# Altium integrated library HyTechDevices.Library.IntLib: 220 symbols (part 3 of 3)
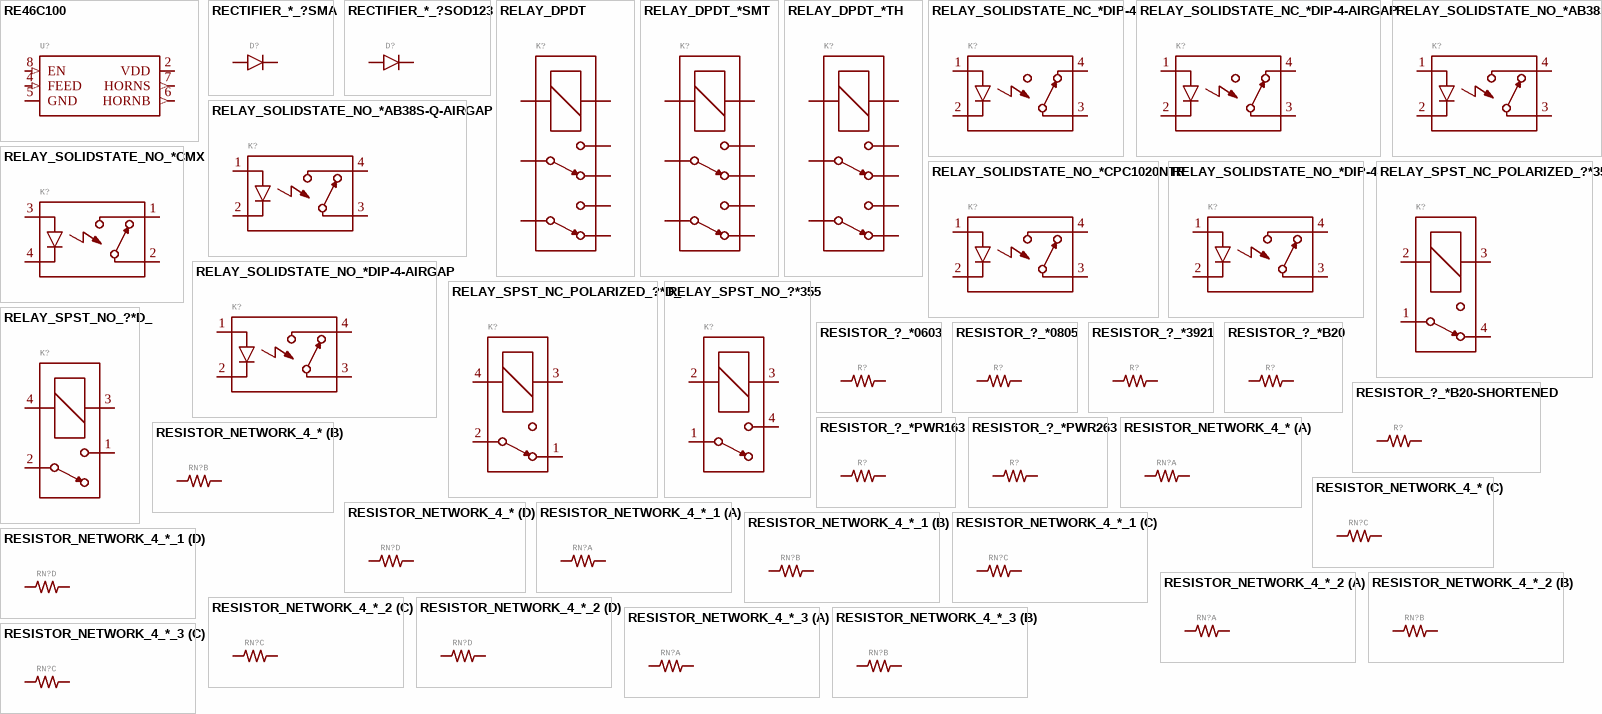
[diagram p9: symbols RE46C100 to RESISTOR_NETWORK_4_*_3]

## RESISTOR_NETWORK_4_*_2
designator RN?, comment Resistor Network, 4 Elements  YC/TC Series  CAT/CAY 16 Series  (value not drawn)
MANUFACTURER: Bourns Inc.; MPN: CAT16-100J4LF; MPN: CAT16-1000F4LF; MANUFACTURER: Yageo; MPN: TC164-FR-0710KL; MPN: YC164-JR-07160RL; MPN: YC164-FR-071KL; MPN: CAT16-2702F4LF; GateName_1: A; GateName_2: B; GateName_3: C; GateName_4: D; DeviceSetName: RESISTOR_NETWORK_4_*; DKPN: CAT16-100J4LFCT-ND; MOPN: 652-CAT16-100J4LF; POWER: 1/16W; RESISTANCE: 10; TOLERANCE: 5%; VOLTAGE: 50V; DKPN: CAT16-1000F4LFCT-ND; MOPN: 652-CAT16-1000F4LF; RESISTANCE: 100; TOLERANCE: 1%; DKPN: YAG3410CT-ND; MOPN: 603-TC164-FR-0710KL; RESISTANCE: 10K; DKPN: YC164J-160CT-ND; MOPN: 603-YC164-JR-07160RL; RESISTANCE: 160; DKPN: 13-YC164-FR-071KLCT-ND; MOPN: 603-YC164-FR-071KL; RESISTANCE: 1k; DKPN: CAT16-2702F4LFCT-ND; MOPN: 652-CAT16-2702F4LF; RESISTANCE: 27K; SymbolName_1: RESISTOR; SymbolName_2: RESISTOR; SymbolName_3: RESISTOR; SymbolName_4: RESISTOR; LibraryName: HyTechDevices; Package: 1206-RES-ARRAY
footprint 1206-RES-ARRAY
part A pins: 1, 8 2
part B pins: 2 1, 7 2
part C pins: 3 1, 6 2
part D pins: 4 1, 5 2

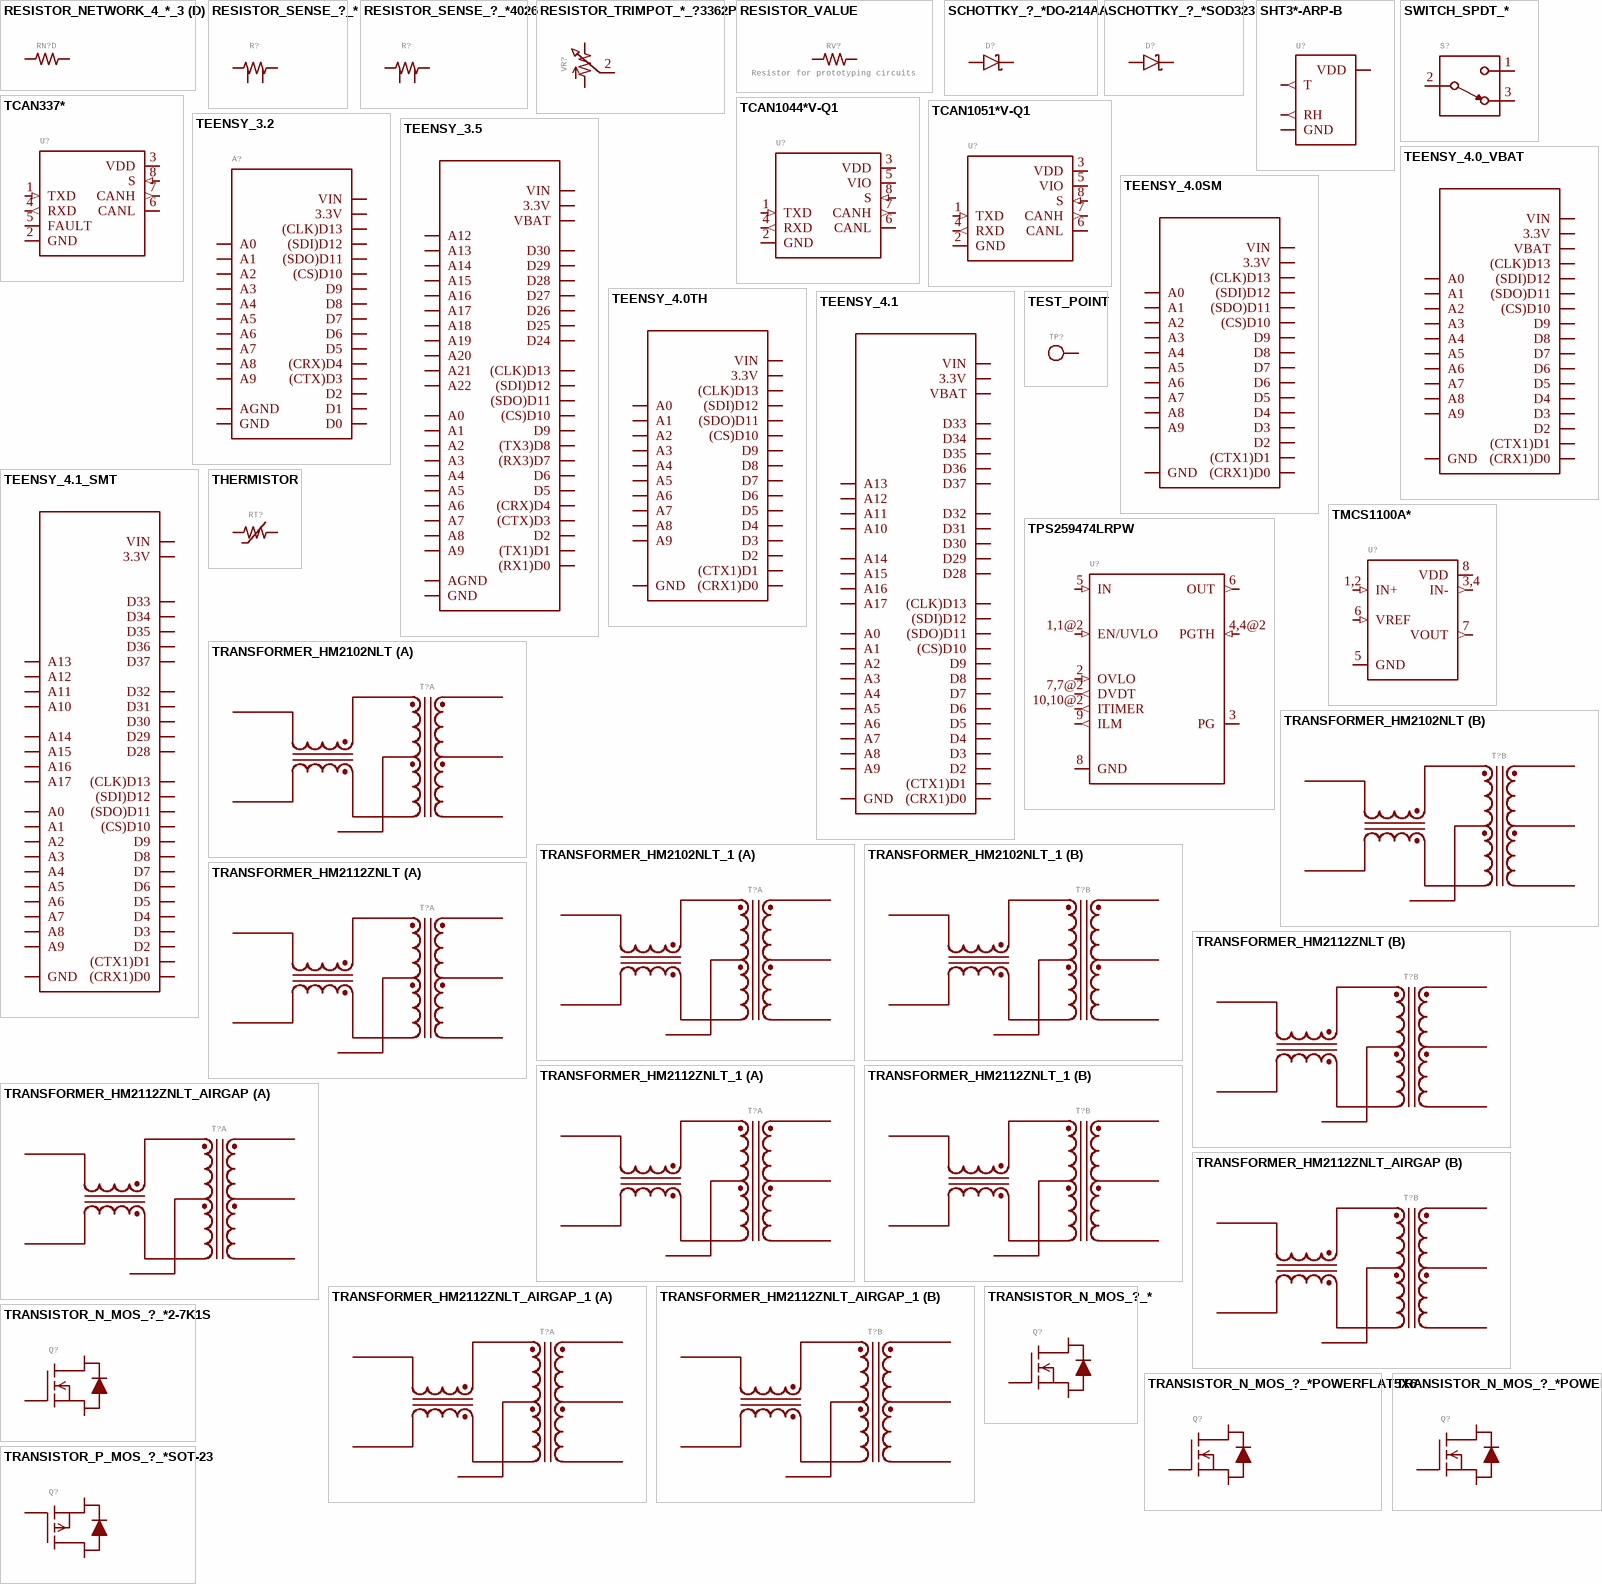
[diagram p5: symbols RESISTOR_NETWORK_4_*_3 to TRANSISTOR_P_MOS_?_*SOT-23]

## RESISTOR_NETWORK_4_*_3
designator RN?, comment Resistor Network, 4 Elements  YC/TC Series  CAT/CAY 16 Series  (value not drawn)
MANUFACTURER: Bourns Inc.; MPN: CAT16-100J4LF; MPN: CAT16-1000F4LF; MANUFACTURER: Yageo; MPN: TC164-FR-0710KL; MPN: YC164-JR-07160RL; MPN: YC164-FR-071KL; MPN: CAT16-2702F4LF; GateName_1: A; GateName_2: B; GateName_3: C; GateName_4: D; DeviceSetName: RESISTOR_NETWORK_4_*; DKPN: CAT16-100J4LFCT-ND; MOPN: 652-CAT16-100J4LF; POWER: 1/16W; RESISTANCE: 10; TOLERANCE: 5%; VOLTAGE: 50V; DKPN: CAT16-1000F4LFCT-ND; MOPN: 652-CAT16-1000F4LF; RESISTANCE: 100; TOLERANCE: 1%; DKPN: YAG3410CT-ND; MOPN: 603-TC164-FR-0710KL; RESISTANCE: 10K; DKPN: YC164J-160CT-ND; MOPN: 603-YC164-JR-07160RL; RESISTANCE: 160; DKPN: 13-YC164-FR-071KLCT-ND; MOPN: 603-YC164-FR-071KL; RESISTANCE: 1k; DKPN: CAT16-2702F4LFCT-ND; MOPN: 652-CAT16-2702F4LF; RESISTANCE: 27K; SymbolName_1: RESISTOR; SymbolName_2: RESISTOR; SymbolName_3: RESISTOR; SymbolName_4: RESISTOR; LibraryName: HyTechDevices; Package: 1206-RES-ARRAY
footprint 1206-RES-ARRAY
part A pins: 1, 8 2
part B pins: 2 1, 7 2
part C pins: 3 1, 6 2
part D pins: 4 1, 5 2

## RESISTOR_SENSE_?_*
designator R?, comment Sense Resistor  Vishay WSL2726 Vishay 4026  (value not drawn)
MANUFACTURER: Vishay Dale; MPN: WSL27261L300FEA; GateName_1: G$1; SymbolName_1: RESISTOR_SENSE; DeviceSetName: RESISTOR_SENSE_?_*; DKPN: 541-WSL27261L300FEACT-ND; MOPN: 71-WSL27261L300FEA; POWER: 3W; RESISTANCE: 1.3mΩ; TOLERANCE: 1%; VOLTAGE: 0.0624V; LibraryName: HyTechDevices; Package: WSL2726
footprint WSL2726
pins: 1, 2, 3, 4

## RESISTOR_SENSE_?_*4026
designator R?, comment Sense Resistor  Vishay WSL2726 Vishay 4026  (value not drawn)
MANUFACTURER: Vishay Dale; MPN: WSL40262L000FEB; GateName_1: G$1; SymbolName_1: RESISTOR_SENSE; DeviceName: 4026; DeviceSetName: RESISTOR_SENSE_?_*; DKPN: WSLR-.002CT-ND; MOPN: 71-WSL40262L000FEB; POWER: 3W; RESISTANCE: 2.0mΩ; TOLERANCE: 1%; VOLTAGE: 0.077V; LibraryName: HyTechDevices; Package: 4026
footprint 4026
pins: 1, 2, 3, 4

## RESISTOR_TRIMPOT_*_?3362P
designator VR?, comment Variable Resistor  Bourns 3362P Datasheet  (value not drawn)
MANUFACTURER: Bourns Inc.; MPN: 3362P-1-103LF; GateName_1: G$1; SymbolName_1: RESISTOR_TRIMPOT; DeviceSetName: RESISTOR_TRIMPOT_*_?; DKPN: 3362P-103LF-ND; MOPN: 652-3362P-1-103LF; POWER: 0.5W; RESISTANCE: 10k; TOLERANCE: 10%; VOLTAGE: 70.711V; DeviceName: 3362P; LibraryName: HyTechDevices; Package: 3362P
footprint 3362P
pins: 1, 2 3, 3 2

## RESISTOR_VALUE
designator RV?, comment Resistor for prototyping circuits
GateName_1: G$1; SymbolName_1: RESISTOR_VALUE; LibraryName: HyTechDevices; DeviceSetName: RESISTOR_VALUE; Package: 0603-RES
footprint 0603-RES
pins: 1, 2

## SCHOTTKY_?_*DO-214AA
designator D?, comment CUS08F30 Shottky Diode  Datasheet  (value not drawn)
MANUFACTURER: Comchip Technology; MPN: CDBB3150-HF; GateName_1: G$1; SymbolName_1: DIODE_SCHOTTKY; DeviceName: DO-214AA; DeviceSetName: SCHOTTKY_?_*; CURRENT: 3A; DKPN: 641-1720-1-ND; MOPN: 750-CDBB3150-HF; VOLTAGE: 150V; LibraryName: HyTechDevices; Package: DO-214AA
footprint DO-214AA
pins: 1 A, 2 C

## SCHOTTKY_?_*SOD323
designator D?, comment CUS08F30 Shottky Diode  Datasheet  (value not drawn)
MANUFACTURER: Toshiba Semiconductor and Storage; MANUFACTURER: Panjit International Inc.; MPN: MBR1060HEWS_R1_00001; GateName_1: G$1; SymbolName_1: DIODE_SCHOTTKY; DeviceName: SOD323; DeviceSetName: SCHOTTKY_?_*; CURRENT: 0.8A; DKPN: CUS08F30H3FTR-ND; MOPN: 757-CUS08F30H3F; VOLTAGE: 30V; CURRENT: 1A; DKPN: 3757-MBR1060HEWS_R1_00001TR-ND; MOPN: 241-MBR1060HEWSR1000; VOLTAGE: 60V; LibraryName: HyTechDevices; Package: SOD-323; MPN: CUS08F30
footprint SOD-323
pins: A, C

## SHT3*-ARP-B
designator U?, comment Humidity and Temperature Sensor  SHT30: Low Grade  SHT31: High Grade  Datasheet  (value not drawn)
MANUFACTURER: Sensirion AG; MPN: SHT30-ARP-B; MPN: SHT31-ARP-B; GateName_1: G$1; SymbolName_1: SENSOR_HUMIDITY_TEMPERATURE; DeviceSetName: SHT3*-ARP-B; DKPN: 1649-1010-1-ND; MOPN: 403-SHT30-ARP-B; DKPN: 1649-1012-1-ND; MOPN: 403-SHT31-ARP-B; LibraryName: HyTechDevices; Package: DFN-8
footprint DFN-8
pins: 1 RH (out), 2,3,7,8,PAD GND (power), 4 T (out), 5 VDD (power)

## SWITCH_SPDT_*
designator S?, comment Single pole, double throw switch  Datasheet  (value not drawn)
MANUFACTURER: NKK Switches; MPN: CS12ANW03; GateName_1: G$1; SymbolName_1: SWITCH_SPDT; DeviceSetName: SWITCH_SPDT_*; DKPN: 360-2131-ND; MOPN: 633-CS12ANW03; LibraryName: HyTechDevices; Package: CS12ANW03
footprint CS12ANW03
pins: 1 (io), 2 COM (io), 3 2 (io)

## TCAN337*
designator U?, comment TCAN337 Can Tranciever  Datasheet  (value not drawn)
MANUFACTURER: Texas Instruments; MPN: TCAN337GDCNR; GateName_1: G$1; SymbolName_1: CAN_TRANSCIEVER_TCAN337; DeviceSetName: TCAN337*; DKPN: 296-48971-1-ND; MOPN: 595-TCAN337GDCNR; LibraryName: HyTechDevices; Package: SOT-23-8
footprint SOT-23-8
pins: 1 TXD (in), 2 GND (power), 3 VDD (power), 4 RXD (out), 5 FAULT (oc), 6 CANL (io), 7 CANH (out), 8 S (in)

## TCAN1044*V-Q1
designator U?, comment TCAN1044*V Can Tranciever  Datasheet  (value not drawn)
MANUFACTURER: Texas Instruments; MPN: TCAN1044AEVDRQ1; GateName_1: G$1; SymbolName_1: CAN_TRANSCIEVER_TCAN1051*V; DeviceSetName: TCAN1044*V-Q1; DKPN: 296-TCAN1044AEVDRQ1TR-ND; MOPN: 595-TCAN1044AEVDRQ1; LibraryName: HyTechDevices; Package: SOIC-08(NARROW,0.15")
footprint SOIC-08(NARROW,0.15")
pins: 1 TXD (in), 2 GND (power), 3 VDD (power), 4 RXD (out), 5 VIO (power), 6 CANL (io), 7 CANH (out), 8 S (in)

## TCAN1051*V-Q1
designator U?, comment TCAN1051*V Can Tranciever  Datasheet  (value not drawn)
MANUFACTURER: Texas Instruments; MPN: TCAN1051HGVDRQ1; GateName_1: G$1; SymbolName_1: CAN_TRANSCIEVER_TCAN1051*V; DeviceSetName: TCAN1051*V-Q1; DKPN: 296-49935-1-ND; MOPN: 595-TCAN1051HGVDQ1; LibraryName: HyTechDevices; Package: SOIC-08(NARROW,0.15")
footprint SOIC-08(NARROW,0.15")
pins: 1 TXD (in), 2 GND (power), 3 VDD (power), 4 RXD (out), 5 VIO (power), 6 CANL (io), 7 CANH (out), 8 S (in)

## TEENSY_3.2
designator A?, comment Teensy 3.2  Datasheet Requires ordering of:  2: 14 pin, 0.1" pitch female headers  (value not drawn)
GateName_1: G$1; SymbolName_1: TEENSY_3.2; TEENSY: 3.2; LibraryName: HyTechDevices; DeviceSetName: TEENSY_3.2; Package: TEENSY_SHORT
footprint TEENSY_SHORT
pins: 3.3V (power), AGND/GND AGND (power), D0 (io), D1 (io), D2 (io), D3 (CTX)D3 (io), D4 (CRX)D4 (io), D5 (io), D6 (io), D7 (io), D8 (io), D9 (io), D10 (CS)D10 (io), D11 (SDO)D11 (io), D12 (SDI)D12 (io), D13 (CLK)D13 (io), D14 A0 (io), D15 A1 (io), D16 A2 (io), D17 A3 (io), D18 A4 (io), D19 A5 (io), D20 A6 (io), D21 A7 (io), D22 A8 (io), D23 A9 (io), GND (power), VIN (power)

## TEENSY_3.5
designator A?, comment Teensy 3.5  Datasheet Requires ordering of:  2: 24 pin, 0.1" pitch female headers  1:  2 pin, 0.1" pitch female headers  (value not drawn)
GateName_1: G$1; SymbolName_1: TEENSY_3.5_EXT; DeviceSetName: TEENSY_3.5; TEENSY: 3.5; LibraryName: HyTechDevices; Package: TEENSY_LONG_EXT
footprint TEENSY_LONG_EXT
pins: 3V3,3V3@2,3V3@3 3.3V (power), AGND/GND AGND (power), D0 (RX1)D0 (io), D1 (TX1)D1 (io), D2 (io), D3 (CTX)D3 (io), D4 (CRX)D4 (io), D5 (io), D6 (io), D7 (RX3)D7 (io), D8 (TX3)D8 (io), D9 (io), D10 (CS)D10 (io), D11 (SDO)D11 (io), D12 (SDI)D12 (io), D13 (CLK)D13 (io), D14 A0 (io), D15 A1 (io), D16 A2 (io), D17 A3 (io), D18 A4 (io), D19 A5 (io), D20 A6 (io), D21 A7 (io), D22 A8 (io), D23 A9 (io), D24 (io), D25 (io), D26 (io), D27 (io), D28 (io), D29 (io), D30 (io), D31 A12 (io), D32 A13 (io), D33 A14 (io), D34 A15 (io), D35 A16 (io), D36 A17 (io), D37 A18 (io), D38 A19 (io), D39 A20 (io), D40 A21 (io), D41 A22 (io), GND,GND@2 GND (power), VBAT (power), VIN (power)

## TEENSY_4.0_VBAT
designator A?, comment Teensy 4.0 with VBAT Pin  Datasheet Requires ordering of:  1: 14 pin, 0.1" pitch female headers  1: 13 pin, 0.1" pitch female headers  1:   2 pin, 0.1" pitch female headers  (value not drawn)
GateName_1: G$1; SymbolName_1: TEENSY_4.0_VBAT; TEENSY: 4.0; LibraryName: HyTechDevices; DeviceSetName: TEENSY_4.0_VBAT; Package: TEENSY_SHORT_VBAT
footprint TEENSY_SHORT_VBAT
pins: 3.3V (power), AGND/GND,GND GND (power), D0 (CRX1)D0 (io), D1 (CTX1)D1 (io), D2 (io), D3 (io), D4 (io), D5 (io), D6 (io), D7 (io), D8 (io), D9 (io), D10 (CS)D10 (io), D11 (SDO)D11 (io), D12 (SDI)D12 (io), D13 (CLK)D13 (io), D14 A0 (io), D15 A1 (io), D16 A2 (io), D17 A3 (io), D18 A4 (io), D19 A5 (io), D20 A6 (io), D21 A7 (io), D22 A8 (io), D23 A9 (io), VBAT (power), VIN (power)

## TEENSY_4.0SM
designator A?, comment Teensy 4.0  Datasheet Requires ordering of:  2: 14 pin, 0.1" pitch female headers. Recommend Samtec SSM-114-L-SV for surface mount variant.  (value not drawn)
GateName_1: G$1; SymbolName_1: TEENSY_4.0; DeviceName: SM; TEENSY: 4.0; LibraryName: HyTechDevices; DeviceSetName: TEENSY_4.0; Package: TEENSY_SHORT_SSM
footprint TEENSY_SHORT_SSM
pins: 3.3V (power), AGND/GND,GND GND (power), D0 (CRX1)D0 (io), D1 (CTX1)D1 (io), D2 (io), D3 (io), D4 (io), D5 (io), D6 (io), D7 (io), D8 (io), D9 (io), D10 (CS)D10 (io), D11 (SDO)D11 (io), D12 (SDI)D12 (io), D13 (CLK)D13 (io), D14 A0 (io), D15 A1 (io), D16 A2 (io), D17 A3 (io), D18 A4 (io), D19 A5 (io), D20 A6 (io), D21 A7 (io), D22 A8 (io), D23 A9 (io), VIN (power)

## TEENSY_4.0TH
designator A?, comment Teensy 4.0  Datasheet Requires ordering of:  2: 14 pin, 0.1" pitch female headers. Recommend Samtec SSM-114-L-SV for surface mount variant.  (value not drawn)
GateName_1: G$1; SymbolName_1: TEENSY_4.0; DeviceName: TH; TEENSY: 4.0; LibraryName: HyTechDevices; DeviceSetName: TEENSY_4.0; Package: TEENSY_SHORT
footprint TEENSY_SHORT
pins: 3.3V (power), AGND/GND,GND GND (power), D0 (CRX1)D0 (io), D1 (CTX1)D1 (io), D2 (io), D3 (io), D4 (io), D5 (io), D6 (io), D7 (io), D8 (io), D9 (io), D10 (CS)D10 (io), D11 (SDO)D11 (io), D12 (SDI)D12 (io), D13 (CLK)D13 (io), D14 A0 (io), D15 A1 (io), D16 A2 (io), D17 A3 (io), D18 A4 (io), D19 A5 (io), D20 A6 (io), D21 A7 (io), D22 A8 (io), D23 A9 (io), VIN (power)

## TEENSY_4.1
designator A?, comment Teensy 4.1 with VBAT  Datasheet Requires ordering of:  2: 24 pin, 0.1" pitch female headers  1:  2 pin, 0.1" pitch female headers  (value not drawn)
GateName_1: G$1; SymbolName_1: TEENSY_4.1_EXT; DeviceSetName: TEENSY_4.1; TEENSY: 4.1; LibraryName: HyTechDevices; Package: TEENSY_LONG_EXT
footprint TEENSY_LONG_EXT
pins: 3V3,3V3@2,3V3@3 3.3V (power), AGND/GND,GND,GND@2 GND (io), D0 (CRX1)D0 (io), D1 (CTX1)D1 (io), D2 (io), D3 (io), D4 (io), D5 (io), D6 (io), D7 (io), D8 (io), D9 (io), D10 (CS)D10 (io), D11 (SDO)D11 (io), D12 (SDI)D12 (io), D13 (CLK)D13 (io), D14 A0 (io), D15 A1 (io), D16 A2 (io), D17 A3 (io), D18 A4 (io), D19 A5 (io), D20 A6 (io), D21 A7 (io), D22 A8 (io), D23 A9 (io), D24 A10 (io), D25 A11 (io), D26 A12 (io), D27 A13 (io), D28 (io), D29 (io), D30 (io), D31 (io), D32 (io), D33 (io), D34 (io), D35 (io), D36 (io), D37 (io), D38 A14 (io), D39 A15 (io), D40 A16 (io), D41 A17 (io), VBAT (power), VIN (power)

## TEENSY_4.1_SMT
designator A?, comment Teensy 4.1 without VBAT  Datasheet Requires ordering of:  2: 24 pin, 0.1" pitch SMT female headers  (value not drawn)
GateName_1: G$1; SymbolName_1: TEENSY_4.1_EXT_NOBATT; DeviceSetName: TEENSY_4.1_SMT; TEENSY: 4.1; LibraryName: HyTechDevices; Package: TEENSY_LONG_SSM
footprint TEENSY_LONG_SSM
pins: 3.3V,3.3V@1 3.3V (power), AGND/GND,GND,GND@1 GND (io), D0 (CRX1)D0 (io), D1 (CTX1)D1 (io), D2 (io), D3 (io), D4 (io), D5 (io), D6 (io), D7 (io), D8 (io), D9 (io), D10 (CS)D10 (io), D11 (SDO)D11 (io), D12 (SDI)D12 (io), D13 (CLK)D13 (io), D14 A0 (io), D15 A1 (io), D16 A2 (io), D17 A3 (io), D18 A4 (io), D19 A5 (io), D20 A6 (io), D21 A7 (io), D22 A8 (io), D23 A9 (io), D24 A10 (io), D25 A11 (io), D26 A12 (io), D27 A13 (io), D28 (io), D29 (io), D30 (io), D31 (io), D32 (io), D33 (io), D34 (io), D35 (io), D36 (io), D37 (io), D38 A14 (io), D39 A15 (io), D40 A16 (io), D41 A17 (io), VIN (power)

## TEST_POINT
designator TP?, comment Test Point for Probing  (value not drawn)
MANUFACTURER: Keystone Electronics; MPN: 5015; GateName_1: G$1; SymbolName_1: TEST_POINT; DKPN: 36-5015CT-ND; MOPN: 534-5015; LibraryName: HyTechDevices; DeviceSetName: TEST_POINT; Package: 5015
footprint 5015
pins: 1

## THERMISTOR
designator RT?, comment Thermistor  Datasheet Murata  (value not drawn)
MANUFACTURER: Murata Electronics; MPN: NCU18XH103D60RB; GateName_1: G$1; SymbolName_1: RESISTOR_THERMISTOR; DKPN: 490-18147-1-ND; MOPN: 81-NCU18XH103D60RB; RESISTANCE: 10k; LibraryName: HyTechDevices; DeviceSetName: THERMISTOR; Package: 0603-RES
footprint 0603-RES
pins: 1, 2

## TMCS1100A*
designator U?, comment TMCS1100A* Hall-Effect Current Sensor  Datasheet  (value not drawn)
MANUFACTURER: Texas Instruments; MPN: TMCS1100A4; GateName_1: G$1; DKPN: 296-TMCS1100A4QDR; MOPN: 595-TMCS1100A4QDR; MOPN: 595-TMCS1100A4QDT; SymbolName_1: TMCS1100A*; LibraryName: HyTechDevices; DeviceSetName: TMCS1100A*; Package: SOIC-08(NARROW,0.15")
footprint SOIC-08(NARROW,0.15")
pins: 1,2 IN+ (in), 3,4 IN- (out), 5 GND (power), 6 VREF (in), 7 VOUT (out), 8 VDD (power)

## TPS259474LRPW
designator U?, comment TPS259474x E-Fuse  Datasheet Note: See page 32 for application schematic.  (value not drawn)
GateName_1: G$1; SymbolName_1: TPS259474*; DeviceSetName: TPS259474LRPW; LibraryName: HyTechDevices; Package: VQFN-HR-10; MPN: TPS259474LRPW
footprint VQFN-HR-10
pins: 1,1@2 EN/UVLO (in), 2 OVLO (in), 3 PG (oc), 4,4@2 PGTH (in), 5 IN (in), 6 OUT (out), 7,7@2 DVDT (out), 8 GND (power), 9 ILM (out), 10,10@2 ITIMER (out)

## TRANSFORMER_HM2102NLT
designator T?, comment 2 Channel SMT Transformer Specs for both HM2102NL and HM2112ZNL Transformers Turns ratio: 1CT: 1CT Isolation Voltage: 4300 VDC Inductance: 150 uH Leakage Inductance: 0.50 uH max    HM2102NLT: Datasheet   HM2112ZNLT: Datasheet  (value not drawn)
MANUFACTURER: Pulse Electronics Network; GateName_1: A; GateName_2: B; DeviceName: _HM2102NLT; DKPN: 1840-1034-1-ND; MOPN: 673-HM2102NLT; SymbolName_1: TRANSFORMER; SymbolName_2: TRANSFORMER; LibraryName: HyTechDevices; DeviceSetName: TRANSFORMER; Package: HM2102NLT; MPN: HM2102NLT
footprint HM2102NLT
part A pins: 1 MX+, 2 MCT, 3 MX-, 10 TD-, 11 TCT, 12 TD+
part B pins: 4 MX+, 5 MCT, 6 MX-, 7 TD-, 8 TCT, 9 TD+

## TRANSFORMER_HM2102NLT_1
designator T?, comment 2 Channel SMT Transformer Specs for both HM2102NL and HM2112ZNL Transformers Turns ratio: 1CT: 1CT Isolation Voltage: 4300 VDC Inductance: 150 uH Leakage Inductance: 0.50 uH max    HM2102NLT: Datasheet   HM2112ZNLT: Datasheet  (value not drawn)
MANUFACTURER: Pulse Electronics Network; GateName_1: A; GateName_2: B; DeviceName: _HM2102NLT; DKPN: 1840-1034-1-ND; MOPN: 673-HM2102NLT; SymbolName_1: TRANSFORMER; SymbolName_2: TRANSFORMER; LibraryName: HyTechDevices; DeviceSetName: TRANSFORMER; Package: HM2102NLT; MPN: HM2102NLT
footprint HM2102NLT
part A pins: 1 MX+, 2 MCT, 3 MX-, 10 TD-, 11 TCT, 12 TD+
part B pins: 4 MX+, 5 MCT, 6 MX-, 7 TD-, 8 TCT, 9 TD+

## TRANSFORMER_HM2112ZNLT
designator T?, comment 2 Channel SMT Transformer Specs for both HM2102NL and HM2112ZNL Transformers Turns ratio: 1CT: 1CT Isolation Voltage: 4300 VDC Inductance: 150 uH Leakage Inductance: 0.50 uH max    HM2102NLT: Datasheet   HM2112ZNLT: Datasheet  (value not drawn)
MANUFACTURER: Pulse Electronics; GateName_1: A; GateName_2: B; DeviceName: _HM2112ZNLT; DKPN: 1840-1036-1-ND; MOPN: 673-HM2112ZNLT; SymbolName_1: TRANSFORMER; SymbolName_2: TRANSFORMER; LibraryName: HyTechDevices; DeviceSetName: TRANSFORMER; Package: HM2112ZNLT; MPN: HM2112ZNLT
footprint HM2112ZNLT
part A pins: 1 MX+, 2 MCT, 3 MX-, 10 TD-, 11 TCT, 12 TD+
part B pins: 4 MX+, 5 MCT, 6 MX-, 7 TD-, 8 TCT, 9 TD+

## TRANSFORMER_HM2112ZNLT_1
designator T?, comment 2 Channel SMT Transformer Specs for both HM2102NL and HM2112ZNL Transformers Turns ratio: 1CT: 1CT Isolation Voltage: 4300 VDC Inductance: 150 uH Leakage Inductance: 0.50 uH max    HM2102NLT: Datasheet   HM2112ZNLT: Datasheet  (value not drawn)
MANUFACTURER: Pulse Electronics; GateName_1: A; GateName_2: B; DeviceName: _HM2112ZNLT; DKPN: 1840-1036-1-ND; MOPN: 673-HM2112ZNLT; SymbolName_1: TRANSFORMER; SymbolName_2: TRANSFORMER; LibraryName: HyTechDevices; DeviceSetName: TRANSFORMER; Package: HM2112ZNLT; MPN: HM2112ZNLT
footprint HM2112ZNLT
part A pins: 1 MX+, 2 MCT, 3 MX-, 10 TD-, 11 TCT, 12 TD+
part B pins: 4 MX+, 5 MCT, 6 MX-, 7 TD-, 8 TCT, 9 TD+

## TRANSFORMER_HM2112ZNLT_AIRGAP
designator T?, comment 2 Channel SMT Transformer Specs for both HM2102NL and HM2112ZNL Transformers Turns ratio: 1CT: 1CT Isolation Voltage: 4300 VDC Inductance: 150 uH Leakage Inductance: 0.50 uH max    HM2102NLT: Datasheet   HM2112ZNLT: Datasheet  (value not drawn)
MANUFACTURER: Pulse Electronics; GateName_1: A; GateName_2: B; DeviceName: _HM2112ZNLT_AIRGAP; DKPN: 1840-1036-1-ND; MOPN: 673-HM2112ZNLT; SymbolName_1: TRANSFORMER; SymbolName_2: TRANSFORMER; LibraryName: HyTechDevices; DeviceSetName: TRANSFORMER; Package: HM2112ZNLT_AIRGAP; MPN: HM2112ZNLT
footprint HM2112ZNLT_AIRGAP
part A pins: 1 MX+, 2 MCT, 3 MX-, 10 TD-, 11 TCT, 12 TD+
part B pins: 4 MX+, 5 MCT, 6 MX-, 7 TD-, 8 TCT, 9 TD+

## TRANSFORMER_HM2112ZNLT_AIRGAP_1
designator T?, comment 2 Channel SMT Transformer Specs for both HM2102NL and HM2112ZNL Transformers Turns ratio: 1CT: 1CT Isolation Voltage: 4300 VDC Inductance: 150 uH Leakage Inductance: 0.50 uH max    HM2102NLT: Datasheet   HM2112ZNLT: Datasheet  (value not drawn)
MANUFACTURER: Pulse Electronics; GateName_1: A; GateName_2: B; DeviceName: _HM2112ZNLT_AIRGAP; DKPN: 1840-1036-1-ND; MOPN: 673-HM2112ZNLT; SymbolName_1: TRANSFORMER; SymbolName_2: TRANSFORMER; LibraryName: HyTechDevices; DeviceSetName: TRANSFORMER; Package: HM2112ZNLT_AIRGAP; MPN: HM2112ZNLT
footprint HM2112ZNLT_AIRGAP
part A pins: 1 MX+, 2 MCT, 3 MX-, 10 TD-, 11 TCT, 12 TD+
part B pins: 4 MX+, 5 MCT, 6 MX-, 7 TD-, 8 TCT, 9 TD+

## TRANSISTOR_N_MOS_?_*
designator Q?, comment N-MOSFET  PMV15ENEA Datasheet  TK6P65W Datasheet  SIR638ADP Datasheet  DMG3406L Datasheet     STL2N80K5  (value not drawn)
MANUFACTURER: Diodes Incorporated; MPN: DMG3406L-7; MANUFACTURER: Nexperia USA Inc.; MPN: PMV15ENEAR; GateName_1: G$1; SymbolName_1: MOSFET_N-CHANNEL; DeviceSetName: TRANSISTOR_N_MOS_?_*; DKPN: DMG3406L-7DITR-ND; MOPN: 621-DMG3406L-7; DKPN: 1727-8588-1-ND; MOPN: 771-PMV15ENEAR; LibraryName: HyTechDevices; Package: SOT-23
footprint SOT-23
pins: 1 G, 2 S, 3 D

## TRANSISTOR_N_MOS_?_*2-7K1S
designator Q?, comment N-MOSFET  PMV15ENEA Datasheet  TK6P65W Datasheet  SIR638ADP Datasheet  DMG3406L Datasheet     STL2N80K5  (value not drawn)
MANUFACTURER: Toshiba Semiconductor and Storage; MPN: TK100S04N1L,LQ; MPN: TK6P65W,RQ; GateName_1: G$1; SymbolName_1: MOSFET_N-CHANNEL; DeviceName: 2-7K1S; DeviceSetName: TRANSISTOR_N_MOS_?_*; DKPN: TK100S04N1LLQCT-ND; MOPN: 757-TK100S04N1LLQ; DKPN: TK6P65WRQCT-ND; MOPN: 757-TK6P65WRQ; LibraryName: HyTechDevices; Package: DPAK(2-7K1S)
footprint DPAK(2-7K1S)
pins: 1 G, 2 D, 3 S

## TRANSISTOR_N_MOS_?_*POWERFLAT5X6
designator Q?, comment N-MOSFET  PMV15ENEA Datasheet  TK6P65W Datasheet  SIR638ADP Datasheet  DMG3406L Datasheet     STL2N80K5  (value not drawn)
MANUFACTURER: STMicroelectronics; GateName_1: G$1; SymbolName_1: MOSFET_N-CHANNEL; DeviceName: POWERFLAT5X6; DeviceSetName: TRANSISTOR_N_MOS_?_*; DKPN: 497-14539-1-ND; MOPN: 511-STL2N80K5; LibraryName: HyTechDevices; Package: POWERFLAT5X6; MPN: STL2N80K5
footprint POWERFLAT5X6
pins: D, G, S

## TRANSISTOR_N_MOS_?_*POWERPAK
designator Q?, comment N-MOSFET  PMV15ENEA Datasheet  TK6P65W Datasheet  SIR638ADP Datasheet  DMG3406L Datasheet     STL2N80K5  (value not drawn)
MANUFACTURER: Vishay Siliconix; MPN: SIR638ADP-T1-RE3; GateName_1: G$1; SymbolName_1: MOSFET_N-CHANNEL; DeviceName: POWERPAK; DeviceSetName: TRANSISTOR_N_MOS_?_*; DKPN: SIR638ADP-T1-RE3CT-ND; LibraryName: HyTechDevices; Package: POWERPAK_SO-8; MOPN: Vishay Siliconix
footprint POWERPAK_SO-8
pins: 1-3 S, 4 G, D@5,D@6,D@7,D@8,D@PAD D

## TRANSISTOR_P_MOS_?_*SOT-23
designator Q?, comment P-MOSFET  SI2369DS Datasheet  DMP3056L Datasheet  (value not drawn)
MANUFACTURER: Diodes Incorporated; MPN: DMP3056L-7; MANUFACTURER: Vishay Siliconix; MPN: SI2369DS-T1-GE3; GateName_1: G$1; SymbolName_1: MOSFET_P-CHANNEL; DeviceName: SOT-23; DeviceSetName: TRANSISTOR_P_MOS_?_*; DKPN: DMP3056L-7DITR-ND; MOPN: 621-DMP3056L-7; DKPN: SI2369DS-T1-GE3CT-ND; MOPN: 78-SI2369DS-T1-GE3; LibraryName: HyTechDevices; Package: SOT-23
footprint SOT-23
pins: 1 G, 2 S, 3 D

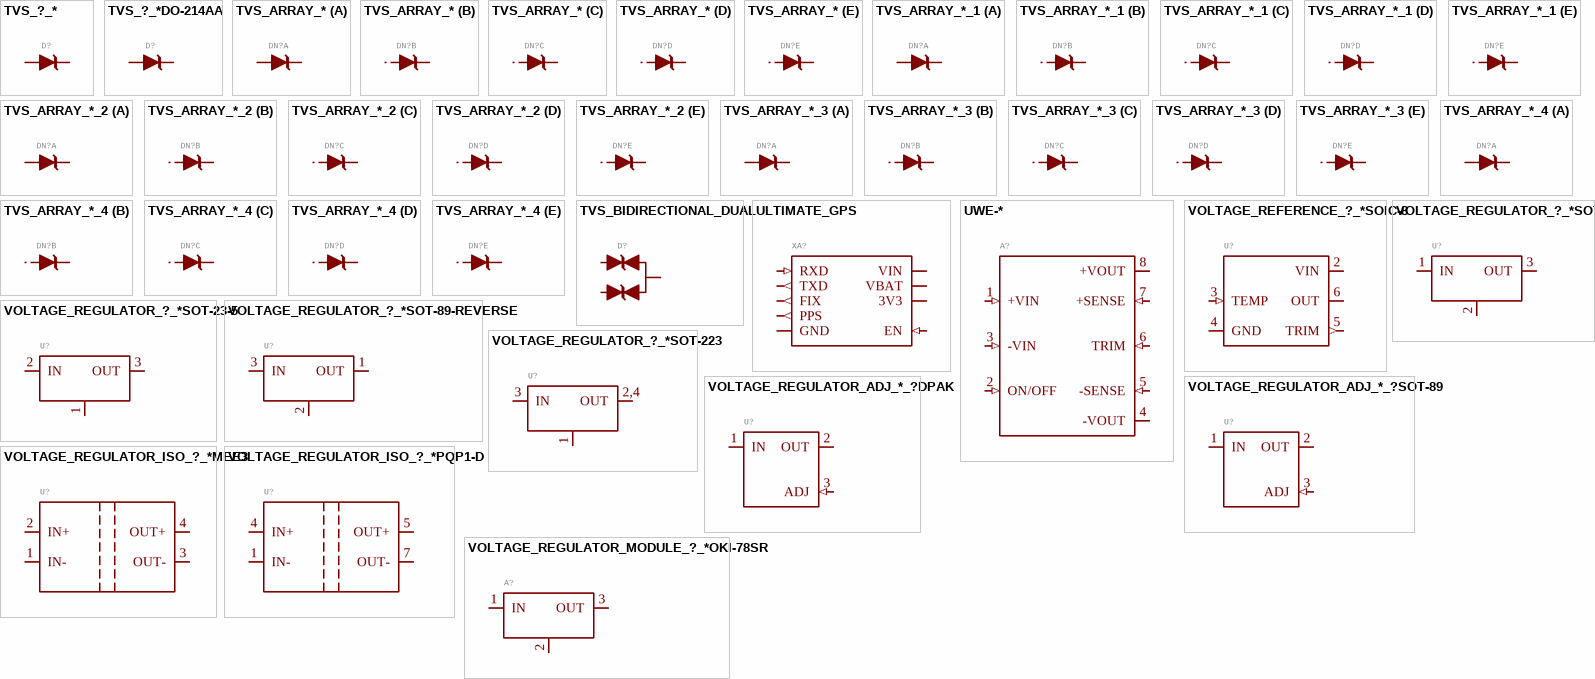
[diagram p6: symbols TVS_?_* to VOLTAGE_REGULATOR_MODULE_?_*OKI-78SR]

## TVS_?_*
designator D?, comment TVS Diode  GSOT Datasheet  (value not drawn)
MANUFACTURER: Vishay General Semiconductor - Diodes Division; MPN: GSOT15-E3-08; MPN: GSOT04-E3-08; MPN: GSOT05-E3-08; MPN: GSOT08-E3-08; GateName_1: G$1; SymbolName_1: DIODE_TVS_UNIDIRECTIONAL; DeviceSetName: TVS_?_*; DKPN: GSOT15-E3-08CT-ND; MOPN: 78-GSOT15-E3-08; VOLTAGE: 15V; DKPN: GSOT04-E3-08CT-ND; MOPN: 78-GSOT04-E3-08; VOLTAGE: 4V; DKPN: GSOT05-E3-08TR-ND; MOPN: 78-GSOT05-E3-08; VOLTAGE: 5V; DKPN: GSOT08-E3-08TR-ND; MOPN: 78-GSOT08-E3-08; VOLTAGE: 8V; LibraryName: HyTechDevices; Package: SOT-23
footprint SOT-23
pins: 1 A, 3 C

## TVS_?_*DO-214AA
designator D?, comment TVS Diode  GSOT Datasheet  (value not drawn)
MANUFACTURER: Bourns Inc.; MPN: 1.5SMBJ28A; MPN: 1.5SMBJ30A; GateName_1: G$1; SymbolName_1: DIODE_TVS_UNIDIRECTIONAL; DeviceName: DO-214AA; DeviceSetName: TVS_?_*; DKPN: 118-1.5SMBJ28ATR-ND; MOPN: 652-1.5SMBJ28A; VOLTAGE: 28V; DKPN: 118-1.5SMBJ30ATR-ND; MOPN: 652-1.5SMBJ30A; VOLTAGE: 30V; LibraryName: HyTechDevices; Package: DO-214AA
footprint DO-214AA
pins: 1 A, 2 C

## TVS_ARRAY_*
designator DN?, comment TVS Diode Array  Datasheet  (value not drawn)
MANUFACTURER: Vishay General Semiconductor - Diodes Division; MPN: VESD16A5-06G-G3-08; MPN: VESD05A5-06G-G3-08; GateName_1: A; SymbolName_1: DIODE_TVS_UNIDIRECTIONAL; GateName_2: B; SymbolName_2: DIODE_TVS_UNIDIRECTIONAL_SINGLE_ENDED; GateName_3: C; GateName_4: D; GateName_5: E; DeviceSetName: TVS_ARRAY_*; DKPN: 112-VESD16A5-06G-G3-08CT-ND; MOPN: 78-VESD16A5-06G-G308; VOLTAGE: 16V; DKPN: 112-VESD05A5-06G-G3-08CT-ND; MOPN: 78-VESD05A5-06G-G308; VOLTAGE: 5V; SymbolName_3: DIODE_TVS_UNIDIRECTIONAL_SINGLE_ENDED; SymbolName_4: DIODE_TVS_UNIDIRECTIONAL_SINGLE_ENDED; SymbolName_5: DIODE_TVS_UNIDIRECTIONAL_SINGLE_ENDED; LibraryName: HyTechDevices; Package: SOT-363
footprint SOT-363
part A pins: 1 C, 2 A
part B pins: 3 C
part C pins: 4 C
part D pins: 5 C
part E pins: 6 C

## TVS_ARRAY_*_1
designator DN?, comment TVS Diode Array  Datasheet  (value not drawn)
MANUFACTURER: Vishay General Semiconductor - Diodes Division; MPN: VESD16A5-06G-G3-08; MPN: VESD05A5-06G-G3-08; GateName_1: A; SymbolName_1: DIODE_TVS_UNIDIRECTIONAL; GateName_2: B; SymbolName_2: DIODE_TVS_UNIDIRECTIONAL_SINGLE_ENDED; GateName_3: C; GateName_4: D; GateName_5: E; DeviceSetName: TVS_ARRAY_*; DKPN: 112-VESD16A5-06G-G3-08CT-ND; MOPN: 78-VESD16A5-06G-G308; VOLTAGE: 16V; DKPN: 112-VESD05A5-06G-G3-08CT-ND; MOPN: 78-VESD05A5-06G-G308; VOLTAGE: 5V; SymbolName_3: DIODE_TVS_UNIDIRECTIONAL_SINGLE_ENDED; SymbolName_4: DIODE_TVS_UNIDIRECTIONAL_SINGLE_ENDED; SymbolName_5: DIODE_TVS_UNIDIRECTIONAL_SINGLE_ENDED; LibraryName: HyTechDevices; Package: SOT-363
footprint SOT-363
part A pins: 1 C, 2 A
part B pins: 3 C
part C pins: 4 C
part D pins: 5 C
part E pins: 6 C

## TVS_ARRAY_*_2
designator DN?, comment TVS Diode Array  Datasheet  (value not drawn)
MANUFACTURER: Vishay General Semiconductor - Diodes Division; MPN: VESD16A5-06G-G3-08; MPN: VESD05A5-06G-G3-08; GateName_1: A; SymbolName_1: DIODE_TVS_UNIDIRECTIONAL; GateName_2: B; SymbolName_2: DIODE_TVS_UNIDIRECTIONAL_SINGLE_ENDED; GateName_3: C; GateName_4: D; GateName_5: E; DeviceSetName: TVS_ARRAY_*; DKPN: 112-VESD16A5-06G-G3-08CT-ND; MOPN: 78-VESD16A5-06G-G308; VOLTAGE: 16V; DKPN: 112-VESD05A5-06G-G3-08CT-ND; MOPN: 78-VESD05A5-06G-G308; VOLTAGE: 5V; SymbolName_3: DIODE_TVS_UNIDIRECTIONAL_SINGLE_ENDED; SymbolName_4: DIODE_TVS_UNIDIRECTIONAL_SINGLE_ENDED; SymbolName_5: DIODE_TVS_UNIDIRECTIONAL_SINGLE_ENDED; LibraryName: HyTechDevices; Package: SOT-363
footprint SOT-363
part A pins: 1 C, 2 A
part B pins: 3 C
part C pins: 4 C
part D pins: 5 C
part E pins: 6 C

## TVS_ARRAY_*_3
designator DN?, comment TVS Diode Array  Datasheet  (value not drawn)
MANUFACTURER: Vishay General Semiconductor - Diodes Division; MPN: VESD16A5-06G-G3-08; MPN: VESD05A5-06G-G3-08; GateName_1: A; SymbolName_1: DIODE_TVS_UNIDIRECTIONAL; GateName_2: B; SymbolName_2: DIODE_TVS_UNIDIRECTIONAL_SINGLE_ENDED; GateName_3: C; GateName_4: D; GateName_5: E; DeviceSetName: TVS_ARRAY_*; DKPN: 112-VESD16A5-06G-G3-08CT-ND; MOPN: 78-VESD16A5-06G-G308; VOLTAGE: 16V; DKPN: 112-VESD05A5-06G-G3-08CT-ND; MOPN: 78-VESD05A5-06G-G308; VOLTAGE: 5V; SymbolName_3: DIODE_TVS_UNIDIRECTIONAL_SINGLE_ENDED; SymbolName_4: DIODE_TVS_UNIDIRECTIONAL_SINGLE_ENDED; SymbolName_5: DIODE_TVS_UNIDIRECTIONAL_SINGLE_ENDED; LibraryName: HyTechDevices; Package: SOT-363
footprint SOT-363
part A pins: 1 C, 2 A
part B pins: 3 C
part C pins: 4 C
part D pins: 5 C
part E pins: 6 C

## TVS_ARRAY_*_4
designator DN?, comment TVS Diode Array  Datasheet  (value not drawn)
MANUFACTURER: Vishay General Semiconductor - Diodes Division; MPN: VESD16A5-06G-G3-08; MPN: VESD05A5-06G-G3-08; GateName_1: A; SymbolName_1: DIODE_TVS_UNIDIRECTIONAL; GateName_2: B; SymbolName_2: DIODE_TVS_UNIDIRECTIONAL_SINGLE_ENDED; GateName_3: C; GateName_4: D; GateName_5: E; DeviceSetName: TVS_ARRAY_*; DKPN: 112-VESD16A5-06G-G3-08CT-ND; MOPN: 78-VESD16A5-06G-G308; VOLTAGE: 16V; DKPN: 112-VESD05A5-06G-G3-08CT-ND; MOPN: 78-VESD05A5-06G-G308; VOLTAGE: 5V; SymbolName_3: DIODE_TVS_UNIDIRECTIONAL_SINGLE_ENDED; SymbolName_4: DIODE_TVS_UNIDIRECTIONAL_SINGLE_ENDED; SymbolName_5: DIODE_TVS_UNIDIRECTIONAL_SINGLE_ENDED; LibraryName: HyTechDevices; Package: SOT-363
footprint SOT-363
part A pins: 1 C, 2 A
part B pins: 3 C
part C pins: 4 C
part D pins: 5 C
part E pins: 6 C

## TVS_BIDIRECTIONAL_DUAL
designator D?, comment Bdirectional TVS for CAN ESD  Datasheet  (value not drawn)
MANUFACTURER: Texas Instruments; MPN: TPD2E007DCKR; GateName_1: G$1; SymbolName_1: DIODE_TVS_BIDIRECTIONAL_DUAL; DeviceSetName: TVS_BIDIRECTIONAL_DUAL; DKPN: 296-25281-1-ND; MOPN: 595-TPD2E007DCKR; LibraryName: HyTechDevices; Package: SC-70-3
footprint SC-70-3
pins: 1 C1, 2 C2, 3 A

## ULTIMATE_GPS
designator XA?, comment Adafruit Ultimate GPS Breakout - 66 channel w/10 Hz updates - Version 3  Datasheet Requires ordering of:  2: 5mm height, 3mm screw standoffs  1: Ultimate GPS  1: Antenna  (value not drawn)
MANUFACTURER: Samtec Inc.; MPN: DW-09-07-G-S-200; GateName_1: G$1; SymbolName_1: ULTIMATE_GPS; DKPN: DW-09-07-G-S-200-ND; MOPN: 200-DW0907GS200; LibraryName: HyTechDevices; DeviceSetName: ULTIMATE_GPS; Package: ULTIMATE_GPS
footprint ULTIMATE_GPS
pins: 3.3V 3V3 (power), EN (in), FIX (out), GND (power), PPS (out), RX RXD (in), TX TXD (out), VBAT (power), VIN (power)

## UWE-*
designator A?, comment UWE-Q12 Series Wide Input, Isolated Eighth-Brick DCDC Converters  Datasheet  (value not drawn)
MANUFACTURER: Murata Power Solutions Inc.; MPN: UWE-12/10-Q12PB-C; GateName_1: G$1; SymbolName_1: UWE-*; DKPN: 811-3061-ND; MOPN: 580-UWE-12/10Q12PBC; LibraryName: HyTechDevices; DeviceSetName: UWE-*; Package: UWE-*
footprint UWE-*
pins: 1 +VIN (in), 2 ON/OFF (in), 3 -VIN (in), 4 -VOUT (power), 5 -SENSE (in), 6 TRIM (in), 7 +SENSE (in), 8 +VOUT (power)

## VOLTAGE_REFERENCE_?_*SOIC-8
designator U?, comment MAX6173â€“MAX6177  <> Datasheet  (value not drawn)
MANUFACTURER: Maxim Integrated; MPN: MAX6176AASA+; GateName_1: G$1; SymbolName_1: MAX6176*; DeviceName: SOIC-8; DeviceSetName: VOLTAGE_REFERENCE_?_*; DKPN: MAX6176AASA+-ND; MOPN: 700-MAX6176AASA; LibraryName: HyTechDevices; Package: SOIC-08(NARROW,0.15")
footprint SOIC-08(NARROW,0.15")
pins: 2 VIN (power), 3 TEMP (in), 4 GND (power), 5 TRIM (out), 6 OUT (power)

## VOLTAGE_REGULATOR_?_*SOT-23-5
designator U?, comment Voltage Regulators  LDL1117S50R Datasheet  NCP785AH120T1G  LMS8117A Datasheet  ST732M50R Datasheet  LM2937IMPX-10/NOPB Datasheet  L78L15ACUTR Datasheet  (value not drawn)
MANUFACTURER: STMicroelectronics; GateName_1: G$1; SymbolName_1: VOLTAGE_REGULATOR; DeviceName: SOT-23-5; DeviceSetName: VOLTAGE_REGULATOR_?_*; DKPN: 497-ST732M50RTR-ND; MOPN: 511-ST732M50R; LibraryName: HyTechDevices; Package: SOT-23-5; MPN: ST732M50R
footprint SOT-23-5
pins: 1 GND (power), 2 IN (power), 3 OUT (power)

## VOLTAGE_REGULATOR_?_*SOT-89
designator U?, comment Voltage Regulators  LDL1117S50R Datasheet  NCP785AH120T1G  LMS8117A Datasheet  ST732M50R Datasheet  LM2937IMPX-10/NOPB Datasheet  L78L15ACUTR Datasheet  (value not drawn)
MANUFACTURER: ON Semiconductor; MPN: NCP785AH150T1G; GateName_1: G$1; SymbolName_1: VOLTAGE_REGULATOR; DeviceName: SOT-89; DeviceSetName: VOLTAGE_REGULATOR_?_*; DKPN: NCP785AH120T1GOSCT-ND; MOPN: 863-NCP785AH120T1G; DKPN: NCP785AH150T1GOSTR-ND; MOPN: 863-NCP785AH150T1G; LibraryName: HyTechDevices; Package: SOT-89; MPN: NCP785AH120T1G
footprint SOT-89
pins: 1 IN (power), 2 GND (power), 3 OUT (power)

## VOLTAGE_REGULATOR_?_*SOT-89-REVERSE
designator U?, comment Voltage Regulators  LDL1117S50R Datasheet  NCP785AH120T1G  LMS8117A Datasheet  ST732M50R Datasheet  LM2937IMPX-10/NOPB Datasheet  L78L15ACUTR Datasheet  (value not drawn)
MANUFACTURER: STMicroelectronics; GateName_1: G$1; SymbolName_1: VOLTAGE_REGULATOR; DeviceName: SOT-89-REVERSE; DeviceSetName: VOLTAGE_REGULATOR_?_*; DKPN: 497-7279-2-ND; MOPN: 511-L78L15ACU-TR; LibraryName: HyTechDevices; Package: SOT-89; MPN: L78L15ACUTR
footprint SOT-89
pins: 1 OUT (power), 2 GND (power), 3 IN (power)

## VOLTAGE_REGULATOR_?_*SOT-223
designator U?, comment Voltage Regulators  LDL1117S50R Datasheet  NCP785AH120T1G  LMS8117A Datasheet  ST732M50R Datasheet  LM2937IMPX-10/NOPB Datasheet  L78L15ACUTR Datasheet  (value not drawn)
MANUFACTURER: Texas Instruments; MPN: LMS8117AMP-3.3/NOPB; MANUFACTURER: STMicroelectronics; GateName_1: G$1; SymbolName_1: VOLTAGE_REGULATOR; DeviceName: SOT-223; DeviceSetName: VOLTAGE_REGULATOR_?_*; DKPN: LM2937IMPX-10/NOPBDKR-ND; MOPN: 926-LM2937IMP-10NOPB; DKPN: LMS8117AMP-3.3/NOPBCT-ND; MOPN: 926-LMS8117AMP33NOPB; DKPN: 497-17240-1-ND; MOPN: 511-LDL1117S50R; LibraryName: HyTechDevices; Package: SOT-223; MPN: LM2937IMPX-10/NOPB; MPN: LDL1117S50R
footprint SOT-223
pins: 1 GND (power), 2,4 OUT (power), 3 IN (power)

## VOLTAGE_REGULATOR_ADJ_*_?DPAK
designator U?, comment Adjustable voltage regulators. LR8 Datasheet  (value not drawn)
MANUFACTURER: Microchip Technology; MPN: LR8K4-G; GateName_1: G$1; SymbolName_1: VOLTAGE_REGULATOR_ADJ; DeviceName: DPAK; DeviceSetName: VOLTAGE_REGULATOR_ADJ_*_?; DKPN: LR8K4-GTR-ND; MOPN: 689-LR8K4-G; LibraryName: HyTechDevices; Package: DPAK(2-7K1S)
footprint DPAK(2-7K1S)
pins: 1 IN (power), 2 OUT (power), 3 ADJ (in)

## VOLTAGE_REGULATOR_ADJ_*_?SOT-89
designator U?, comment Adjustable voltage regulators. LR8 Datasheet  (value not drawn)
MANUFACTURER: Microchip Technology; MPN: LR8N8-G; GateName_1: G$1; SymbolName_1: VOLTAGE_REGULATOR_ADJ; DeviceName: SOT-89; DeviceSetName: VOLTAGE_REGULATOR_ADJ_*_?; DKPN: LR8N8-GTR-ND; MOPN: 689-LR8N8-G; LibraryName: HyTechDevices; Package: SOT-89
footprint SOT-89
pins: 1 IN (power), 2 OUT (power), 3 ADJ (in)

## VOLTAGE_REGULATOR_ISO_?_*MEE3
designator U?, comment Isolated voltage regulator  MEE3XXXXSC Datasheet PQP1-D Datasheet  (value not drawn)
MANUFACTURER: Murata Power Solutions; MPN: MEE3S0505SC; GateName_1: G$1; SymbolName_1: VOLTAGE_REGULATOR_ISO; DeviceName: MEE3; DeviceSetName: VOLTAGE_REGULATOR_ISO_?_*; DKPN: 811-2360-5-ND; MOPN: 580-MEE3S0505SC; LibraryName: HyTechDevices; Package: MEE3XXXXSC
footprint MEE3XXXXSC
pins: 1 IN- (power), 2 IN+ (power), 3 OUT- (power), 4 OUT+ (power)

## VOLTAGE_REGULATOR_ISO_?_*PQP1-D
designator U?, comment Isolated voltage regulator  MEE3XXXXSC Datasheet PQP1-D Datasheet  (value not drawn)
MANUFACTURER: CUI Inc.; MPN: PQP1-D24-S12-D; GateName_1: G$1; SymbolName_1: VOLTAGE_REGULATOR_ISO; DeviceSetName: VOLTAGE_REGULATOR_ISO_?_*; DKPN: 102-PQP1-D24-S12-D-ND; MOPN: 490-PQP1-D24-S12-D; DeviceName: PQP1-D; LibraryName: HyTechDevices; Package: PQP1-D
footprint PQP1-D
pins: 1 IN- (power), 4 IN+ (power), 5 OUT+ (power), 7 OUT- (power)

## VOLTAGE_REGULATOR_MODULE_?_*OKI-78SR
designator A?, comment Voltage Regulator Modules  OKI-78SR Datasheet  (value not drawn)
MANUFACTURER: Murata Power Solutions Inc.; MPN: OKI-78SR-12/1.0-W36-C; MPN: OKI-78SR-5/1.5-W36-C; GateName_1: G$1; SymbolName_1: VOLTAGE_REGULATOR; DeviceSetName: VOLTAGE_REGULATOR_MODULE_?_*; DKPN: 811-3293-ND; MOPN: 580-OKI78SR12/1W36C; DKPN: 811-2196-5-ND; MOPN: 580-OKI78SR5/1.5W36C; DeviceName: OKI-78SR; LibraryName: HyTechDevices; Package: OKI-78SR
footprint OKI-78SR
pins: 1 IN (power), 2 GND (power), 3 OUT (power)

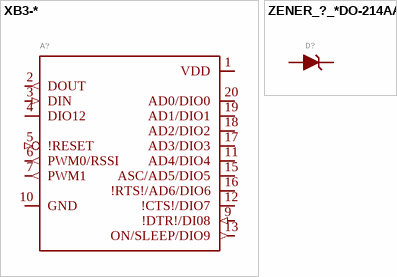
[diagram p7: symbols XB3-* to ZENER_?_*DO-214AA]

## XB3-*
designator A?, comment XB3 Bluetooth/Cellular Modem  Datasheet  (value not drawn)
MANUFACTURER: Digi; MPN: XB3-C-A2-UT-001; GateName_1: G$1; SymbolName_1: XBEE; DeviceSetName: XB3-*; DKPN: 602-2169-ND; MOPN: 888-XB3-C-A2-UT-001; LibraryName: HyTechDevices; Package: XBEE
footprint XBEE
pins: 1 VDD (power), 2 DOUT (out), 3 DIN (in), 4 DIO12 (io), 5 !RESET (in), 6 PWM0/RSSI (out), 7 PWM1 (out), 9 !DTR!/DI08 (in), 10 GND (power), 11 AD4/DIO4 (io), 12 !CTS!/DIO7 (io), 13 ON/SLEEP/DIO9 (out), 15 ASC/AD5/DIO5 (io), 16 !RTS!/AD6/DIO6 (io), 17 AD3/DIO3 (io), 18 AD2/DIO2 (io), 19 AD1/DIO1 (io), 20 AD0/DIO0 (io)

## ZENER_?_*DO-214AA
designator D?, comment Zener Diode   1SMB5949B-13  (value not drawn)
MANUFACTURER: Diodes Incorporated; GateName_1: G$1; SymbolName_1: DIODE_ZENER; DeviceName: DO-214AA; DeviceSetName: ZENER_?_*; CURRENT: 0.03A; DKPN: 1SMB5949B-13DICT-ND; MOPN: 621-1SMB5949B-13; VOLTAGE: 100V; LibraryName: HyTechDevices; Package: DO-214AA; MPN: 1SMB5949B-13
footprint DO-214AA
pins: 1 A, 2 C